# Altium footprint library Ctrl_FOC.PcbLib: 51 footprints (part 2 of 4)
Each footprint in its own frame and in the unit in brackets; x right, y up, seen from the top. Pads: shape width x height; smd on the part's side, far side on the other; paste and mask are expansions set on the pad; w line width, h text height; cw(c..) or ccw(c..) is an arc to the next point about the centre after c.
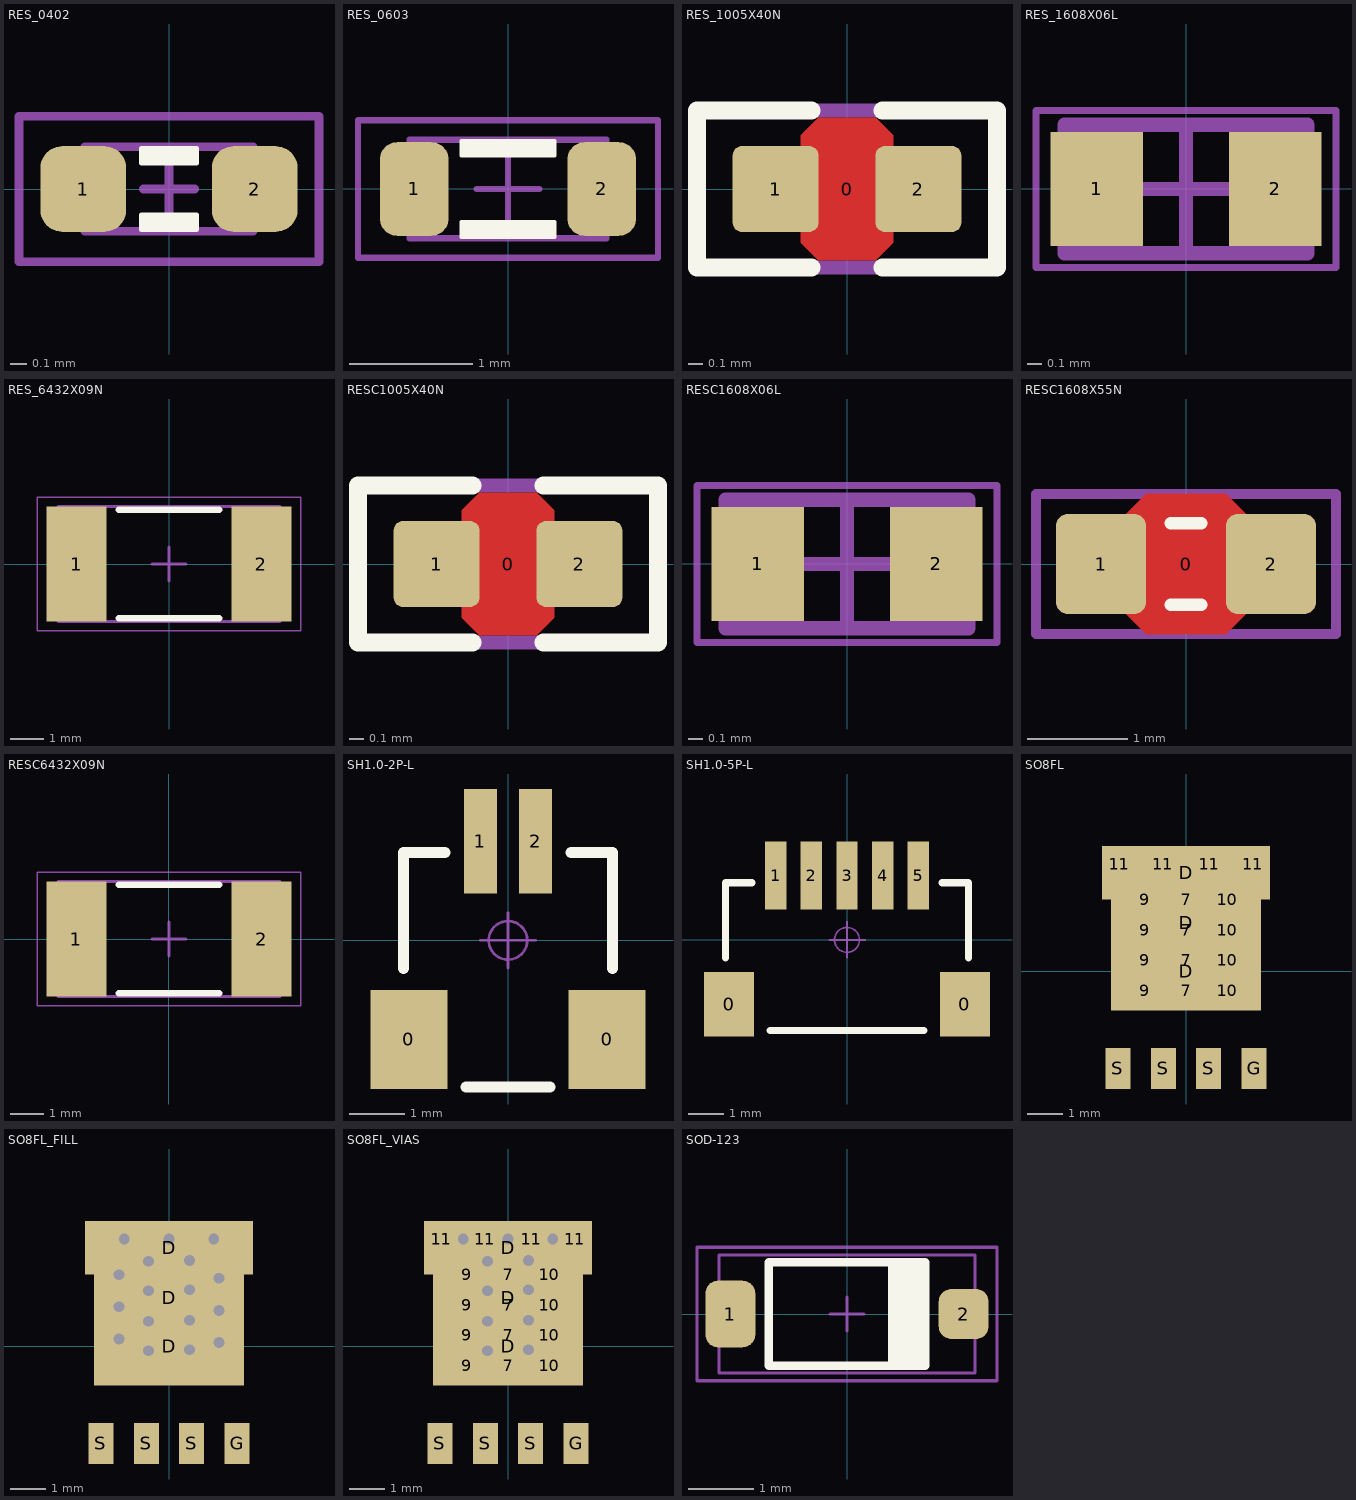
[diagram p1: the footprints below, top view; thin cyan lines are the x and y axes]

## RES_0402 [mil]
height 13.78
pads (2):
  rrect50% 20x20 smd: 1(-20,0) 2(20,0)
Top Overlay:
  region: 6.5,-9.5 -6.5,-9.5 -6.5,-6 6.5,-6
  region: -6.5,9.5 6.5,9.5 6.5,6 -6.5,6
  lines w1: -6.5,-9.5 6.5,-9.5 6.5,-6 -6.5,-6 -6.5,-9.5 ; -6.5,6 -6.5,9.5 6.5,9.5 6.5,6 -6.5,6
Mechanical 13:
  lines w2: -6,0 6,0 ; 0,-6 0,6 ; -19.69,-9.84 -19.69,9.84 19.68,9.84 19.68,-9.84 -19.69,-9.84
Mechanical 14:
  lines w2: -35,-17 35,-17 35,17 -35,17 -35,-17
3D body "RESC1005X03L.step": height 13.78, standoff 0, extent -19.68,-9.84 19.69,9.85

## RES_0603 [mil]
height 31.5
pads (2):
  rrect50% 22x30 smd: 1(-30,0) 2(30,0)
Top Overlay:
  region: -14.74,15.42 -14.74,10.42 15.26,10.42 15.26,15.42
  region: 15,-15.5 15,-10.5 -15,-10.5 -15,-15.5
  lines w1: -15,-15.5 -15,-10.5 15,-10.5 15,-15.5 -15,-15.5 ; -15,10.5 15,10.5 15,15.5 -15,15.5 -15,10.5
Mechanical 13:
  lines w2: -10,0 10,0 ; 0,-10 0,10 ; -31.5,-15.75 -31.5,15.75 31.5,15.75 31.5,-15.75 -31.5,-15.75
Mechanical 14:
  lines w2: -48,-22 -48,22 48,22 48,-22 -48,-22
3D body "RES0603.STEP": height 17.72, standoff 0, extent -31.49,-16.13 31.5,16.15

## RES_1005X40N [mm] "Chip Resistor, Body 1.0x0.5mm, EIA 0402, IPC Medium Density"
height 0.4
pads (3):
  round 0.2 on Mech15: 0(0,0)
  rrect20% 0.6x0.6 smd: 1(-0.5,0) 2(0.5,0)
Top Layer:
  pour cut-out: -0.325,0.375 -0.2,0.5 0.2,0.5 0.325,0.375 0.325,-0.375 0.2,-0.5 -0.2,-0.5 -0.325,-0.375
Top Overlay:
  lines w0.127: -0.25,-0.55 -1.05,-0.55 -1.05,0.55 -0.25,0.55 ; 0.25,-0.55 1.05,-0.55 1.05,0.55 0.25,0.55
Mechanical 13:
  lines w0.05: 0.225,-0.274 -0.225,-0.274 0.225,-0.274 ; -0.525,-0.275 -0.525,0.275 -0.225,0.275 -0.225,-0.275 -0.525,-0.275 ; -0.225,0.274 0.225,0.274 -0.225,0.274 ; 0.225,-0.275 0.525,-0.275 0.525,0.275 0.225,0.275 0.225,-0.275
Mechanical 15:
  lines w0.1: -1.05,-0.55 -1.05,0.55 1.05,0.55 1.05,-0.55 -1.05,-0.55
3D body "RES 0402 (1005 metric).STEP": height 0.4, standoff 0, extent -0.525,-0.275 0.525,0.275

## RES_1608X06L [mm] "Chip Resistor, 2-Leads, Body 1.60x0.80mm, IPC High Density"
height 0.6
pads (2):
  rect 0.65x0.8 smd: 1(-0.625,0) 2(0.625,0)
Mechanical 13:
  lines w0.1: -0.85,-0.45 -0.85,0.45 0.85,0.45 0.85,-0.45 -0.85,-0.45
Mechanical 15:
  lines w0.05: -1.05,-0.55 -1.05,0.55 1.05,0.55 1.05,-0.55 -1.05,-0.55
  lines w0.1: -0.45,0 0.45,0 ; 0,-0.45 0,0.45
3D body: height 0.6, standoff 0, extent -0.55,-0.45 0.55,0.45
3D body: height 0.6, standoff 0, extent -0.85,-0.45 -0.55,0.45
3D body: height 0.6, standoff 0, extent 0.55,-0.45 0.85,0.45

## RES_6432X09N [mm] "Chip Resistor, 2-Leads, Body 6.40x3.20mm, IPC Medium Density"
height 0.9
pads (2):
  rect 1.8x3.45 smd: 1(-2.775,0) 2(2.775,0)
Top Overlay:
  lines w0.2: -1.5,-1.625 1.5,-1.625 ; -1.5,1.625 1.5,1.625
Mechanical 13:
  lines w0.1: -3.325,-1.725 -3.325,1.725 3.325,1.725 3.325,-1.725 -3.325,-1.725
Mechanical 15:
  lines w0.05: -3.95,-2 -3.95,2 3.95,2 3.95,-2 -3.95,-2
  lines w0.1: -0.5,0 0.5,0 ; 0,-0.5 0,0.5
3D body: height 0.9, standoff 0, extent -2.425,-1.725 2.425,1.725
3D body: height 0.9, standoff 0, extent -3.325,-1.725 -2.425,1.725
3D body: height 0.9, standoff 0, extent 2.425,-1.725 3.325,1.725

## RESC1005X40N [mm] "Chip Resistor, Body 1.0x0.5mm, EIA 0402, IPC Medium Density"
height 0.4
pads (3):
  round 0.2 on Mech15: 0(0,0)
  rrect20% 0.6x0.6 smd: 1(-0.5,0) 2(0.5,0)
Top Layer:
  pour cut-out: -0.325,0.375 -0.2,0.5 0.2,0.5 0.325,0.375 0.325,-0.375 0.2,-0.5 -0.2,-0.5 -0.325,-0.375
Top Overlay:
  lines w0.127: -0.25,-0.55 -1.05,-0.55 -1.05,0.55 -0.25,0.55 ; 0.25,-0.55 1.05,-0.55 1.05,0.55 0.25,0.55
Mechanical 13:
  lines w0.05: 0.225,-0.274 -0.225,-0.274 0.225,-0.274 ; -0.525,-0.275 -0.225,-0.275 -0.225,0.275 -0.525,0.275 -0.525,-0.275 ; -0.225,0.274 0.225,0.274 -0.225,0.274 ; 0.225,-0.275 0.225,0.275 0.525,0.275 0.525,-0.275 0.225,-0.275
Mechanical 15:
  lines w0.1: -1.05,-0.55 1.05,-0.55 1.05,0.55 -1.05,0.55 -1.05,-0.55
3D body "RES 0402 (1005 metric).STEP": height 0.4, standoff 0, extent -0.525,-0.275 0.525,0.275

## RESC1608X06L [mm] "Chip Resistor, 2-Leads, Body 1.60x0.80mm, IPC High Density"
height 0.6
pads (2):
  rect 0.65x0.8 smd: 1(-0.625,0) 2(0.625,0)
Mechanical 13:
  lines w0.1: -0.85,-0.45 -0.85,0.45 0.85,0.45 0.85,-0.45 -0.85,-0.45
Mechanical 15:
  lines w0.05: -1.05,-0.55 -1.05,0.55 1.05,0.55 1.05,-0.55 -1.05,-0.55
  lines w0.1: -0.45,0 0.45,0 ; 0,-0.45 0,0.45
3D body: height 0.6, standoff 0, extent -0.55,-0.45 0.55,0.45
3D body: height 0.6, standoff 0, extent -0.85,-0.45 -0.55,0.45
3D body: height 0.6, standoff 0, extent 0.55,-0.45 0.85,0.45

## RESC1608X55N [mm] "Chip Resistor, Body 1.6x0.8mm, EIA 0603, IPC Medium Density"
height 0.55
pads (3):
  round 0.254 on Mech15: 0(0,0)
  rrect25% 0.9x1 smd: 1(-0.85,0) 2(0.85,0)
Top Layer:
  pour cut-out: -0.6,0.5 -0.4,0.7 0.4,0.7 0.6,0.5 0.6,-0.5 0.4,-0.7 -0.4,-0.7 -0.6,-0.5
Top Overlay:
  lines w0.127: -0.152,-0.406 0.152,-0.406 ; -0.152,0.406 0.152,0.406
Mechanical 13:
  lines w0.05: -0.875,-0.475 -0.475,-0.475 -0.475,0.475 -0.875,0.475 -0.875,-0.475 ; -0.475,-0.474 0.475,-0.474 -0.475,-0.474 ; -0.475,0.474 0.475,0.474 -0.475,0.474 ; 0.475,-0.475 0.475,0.475 0.875,0.475 0.875,-0.475 0.475,-0.475
Mechanical 15:
  lines w0.1: -1.5,-0.7 -1.5,0.7 1.5,0.7 1.5,-0.7 -1.5,-0.7
3D body "RES 0603 (1608 metric).STEP": height 0.54, standoff -0.01, extent -0.875,-0.475 0.875,0.475

## RESC6432X09N [mm] "Chip Resistor, 2-Leads, Body 6.40x3.20mm, IPC Medium Density"
height 0.9
pads (2):
  rect 1.8x3.45 smd: 1(-2.775,0) 2(2.775,0)
Top Overlay:
  lines w0.2: -1.5,-1.625 1.5,-1.625 ; -1.5,1.625 1.5,1.625
Mechanical 13:
  lines w0.1: -3.325,-1.725 -3.325,1.725 3.325,1.725 3.325,-1.725 -3.325,-1.725
Mechanical 15:
  lines w0.05: -3.95,-2 3.95,-2 3.95,2 -3.95,2 -3.95,-2
  lines w0.1: -0.5,0 0.5,0 ; 0,-0.5 0,0.5
3D body: height 0.9, standoff 0, extent -3.325,-1.725 -2.425,1.725
3D body: height 0.9, standoff 0, extent -2.425,-1.725 2.425,1.725
3D body: height 0.9, standoff 0, extent 2.425,-1.725 3.325,1.725

## SH1.0-2P-L [mm]
pads (4):
  rect 1.4x1.8 smd: 0(-1.8,-1.8) 0(1.8,-1.8)
  rect 0.6x1.9 smd: 1(-0.5,1.8) 2(0.5,1.8)
Top Overlay:
  lines w0.2: -1.9,-0.508 -1.9,1.6 -1.143,1.6 ; -0.762,-2.667 0.762,-2.667 ; 1.143,1.6 1.8,1.6 1.9,1.6 1.9,1.5 1.9,-0.508
Mechanical 15:
  circle w0.05: c0,0 r0.35
  lines w0.05: -0.5,0 0.5,0 ; 0,-0.5 0,0.5
3D body "SM02B-SRSS-TB.STEP": height 2.96, standoff 0, extent -2,-2.794 2,2.156

## SH1.0-5P-L [mm]
pads (7):
  rect 1.4x1.8 smd: 0(-3.3,-1.8) 0(3.3,-1.8)
  rect 0.6x1.9 smd: 1(-2,1.8) 2(-1,1.8) 3(0,1.8) 4(1,1.8) 5(2,1.8)
Top Overlay:
  lines w0.2: -3.4,-0.508 -3.4,1.6 -2.667,1.6 ; -2.159,-2.54 2.159,-2.54 ; 2.667,1.6 3.3,1.6 3.4,1.6 3.4,1.5 3.4,-0.508
Mechanical 15:
  circle w0.05: c0,0 r0.35
  lines w0.05: -0.5,0 0.5,0 ; 0,-0.5 0,0.5
3D body "SM05B-SRSS-TB.STEP": height 2.96, standoff 0, extent -3.5,-2.794 3.5,2.156

## SO8FL [mm] "DFN5 5x6, 1.27P  (SO-8FL)  CASE 488AA"
height 1
pads (23):
  rect 0.9x0.6 on Top Paste: 7(0,-0.55) 7(0,0.3) 7(0,1.15) 7(0,2) 9(-1.15,-0.55) 9(-1.15,0.3) 9(-1.15,1.15) 9(-1.15,2) 10(1.15,-0.55) 10(1.15,0.3) 10(1.15,1.15) 10(1.15,2)
  rect 0.6x0.9 on Top Paste: 11(-1.875,3) 11(-0.65,3) 11(0.65,3) 11(1.875,3)
  rect 4.2x2.2 smd paste-10 mask+0.075: D(0,0) D(0,1.35)
  rect 4.7x1.5 smd paste-10 mask+0.075: D(0,2.75)
  rect 0.7x1.15 smd paste-0.05 mask+0.075: G(1.905,-2.725) S(-1.905,-2.725) S(-0.635,-2.725) S(0.635,-2.725)
3D body "User Library-DFN5x6_SO8FL.STEP": height 1.13, standoff 0, extent -2.575,-2.95 2.575,3.2

## SO8FL_FILL [mm] "DFN5 5x6, 1.27P  (SO-8FL)  CASE 488AA. Full solder paste"
height 1
pads (7):
  rect 4.2x2.2 smd paste-10 mask+0.075: D(0,0) D(0,1.35)
  rect 4.7x1.5 smd paste-10 mask+0.075: D(0,2.75)
  rect 0.7x1.15 smd paste-0.05 mask+0.075: G(1.905,-2.725) S(-1.905,-2.725) S(-0.635,-2.725) S(0.635,-2.725)
via -1.4,0.2 diameter 0.8 hole 0.3
via -1.4,1.1 diameter 0.8 hole 0.3
via -1.4,2 diameter 0.8 hole 0.3
via 1.4,0.1 diameter 0.8 hole 0.3
via 1.4,1 diameter 0.8 hole 0.3
via 1.4,1.9 diameter 0.8 hole 0.3
via 0.575,0.725 diameter 0.8 hole 0.3
via 1.25,3 diameter 0.8 hole 0.3
via 0,3 diameter 0.8 hole 0.3
via -1.25,3 diameter 0.8 hole 0.3
via -0.575,2.375 diameter 0.8 hole 0.3
via 0.575,2.4 diameter 0.8 hole 0.3
via -0.575,-0.125 diameter 0.8 hole 0.3
via 0.575,-0.1 diameter 0.8 hole 0.3
via -0.575,0.7 diameter 0.8 hole 0.3
via 0.575,1.575 diameter 0.8 hole 0.3
via -0.575,1.55 diameter 0.8 hole 0.3
Top Paste:
  region: -2.2,2.1 -2,2.1 -2,-1 2,-1 2,2.1 2.2,2.1 2.2,3.4 -2.2,3.4
Bottom Solder:
  region: -1,-0.3 0.9,-0.3 1.4,0.2 1.4,3 -1.5,3 -1.5,1 -1.5,0.2
3D body "User Library-DFN5x6_SO8FL.STEP": height 1.13, standoff 0, extent -2.575,-2.95 2.575,3.2

## SO8FL_VIAS [mm] "DFN5 5x6, 1.27P  (SO-8FL)  CASE 488AA"
height 1
pads (23):
  rect 0.9x0.6 on Top Paste: 7(0,-0.55) 7(0,0.3) 7(0,1.15) 7(0,2) 9(-1.15,-0.55) 9(-1.15,0.3) 9(-1.15,1.15) 9(-1.15,2) 10(1.15,-0.55) 10(1.15,0.3) 10(1.15,1.15) 10(1.15,2)
  rect 0.6x0.9 on Top Paste: 11(-1.875,3) 11(-0.65,3) 11(0.65,3) 11(1.875,3)
  rect 4.2x2.2 smd paste-10 mask+0.075: D(0,0) D(0,1.35)
  rect 4.7x1.5 smd paste-10 mask+0.075: D(0,2.75)
  rect 0.7x1.15 smd paste-0.05 mask+0.075: G(1.905,-2.725) S(-1.905,-2.725) S(-0.635,-2.725) S(0.635,-2.725)
via 1.25,3 diameter 0.7 hole 0.3
via 0,3 diameter 0.7 hole 0.3
via -1.25,3 diameter 0.7 hole 0.3
via -0.575,2.375 diameter 0.7 hole 0.3
via 0.575,2.4 diameter 0.7 hole 0.3
via -0.575,-0.125 diameter 0.7 hole 0.3
via 0.575,-0.1 diameter 0.7 hole 0.3
via -0.575,0.7 diameter 0.7 hole 0.3
via 0.575,0.725 diameter 0.7 hole 0.3
via 0.575,1.575 diameter 0.7 hole 0.3
via -0.575,1.55 diameter 0.7 hole 0.3
3D body "User Library-DFN5x6_SO8FL.STEP": height 1.13, standoff 0, extent -2.575,-2.95 2.575,3.2

## SOD-123 [mil]
height 45.28
pads (2):
  rrect50% 30x40 smd: 1(-70,0)
  rrect50% 30x30 smd: 2(70,0)
Top Overlay:
  region: 47,31 47,-31 27,-31 27,31
  lines w5: 27,-31 27,31 ; -47,-31 47,-31 47,31 -47,31 -47,-31
Mechanical 13:
  lines w2: -10.01,0 9.99,0 ; -0.01,-10 -0.01,10 ; -76.78,-35.43 76.77,-35.43 76.77,35.43 -76.78,35.43 -76.78,-35.43
Mechanical 14:
  lines w2: -90,-40 90,-40 90,40 -90,40 -90,-40
3D body "User Library-SOD123-1.STEP": height 46.46, standoff 0, extent -76.78,-35.43 76.77,35.43

## SOP8(SN65HVD232DR [mm]